# Altium schematic symbol library IC_WSYN.SchLib: 152 symbols (part 2 of 2)
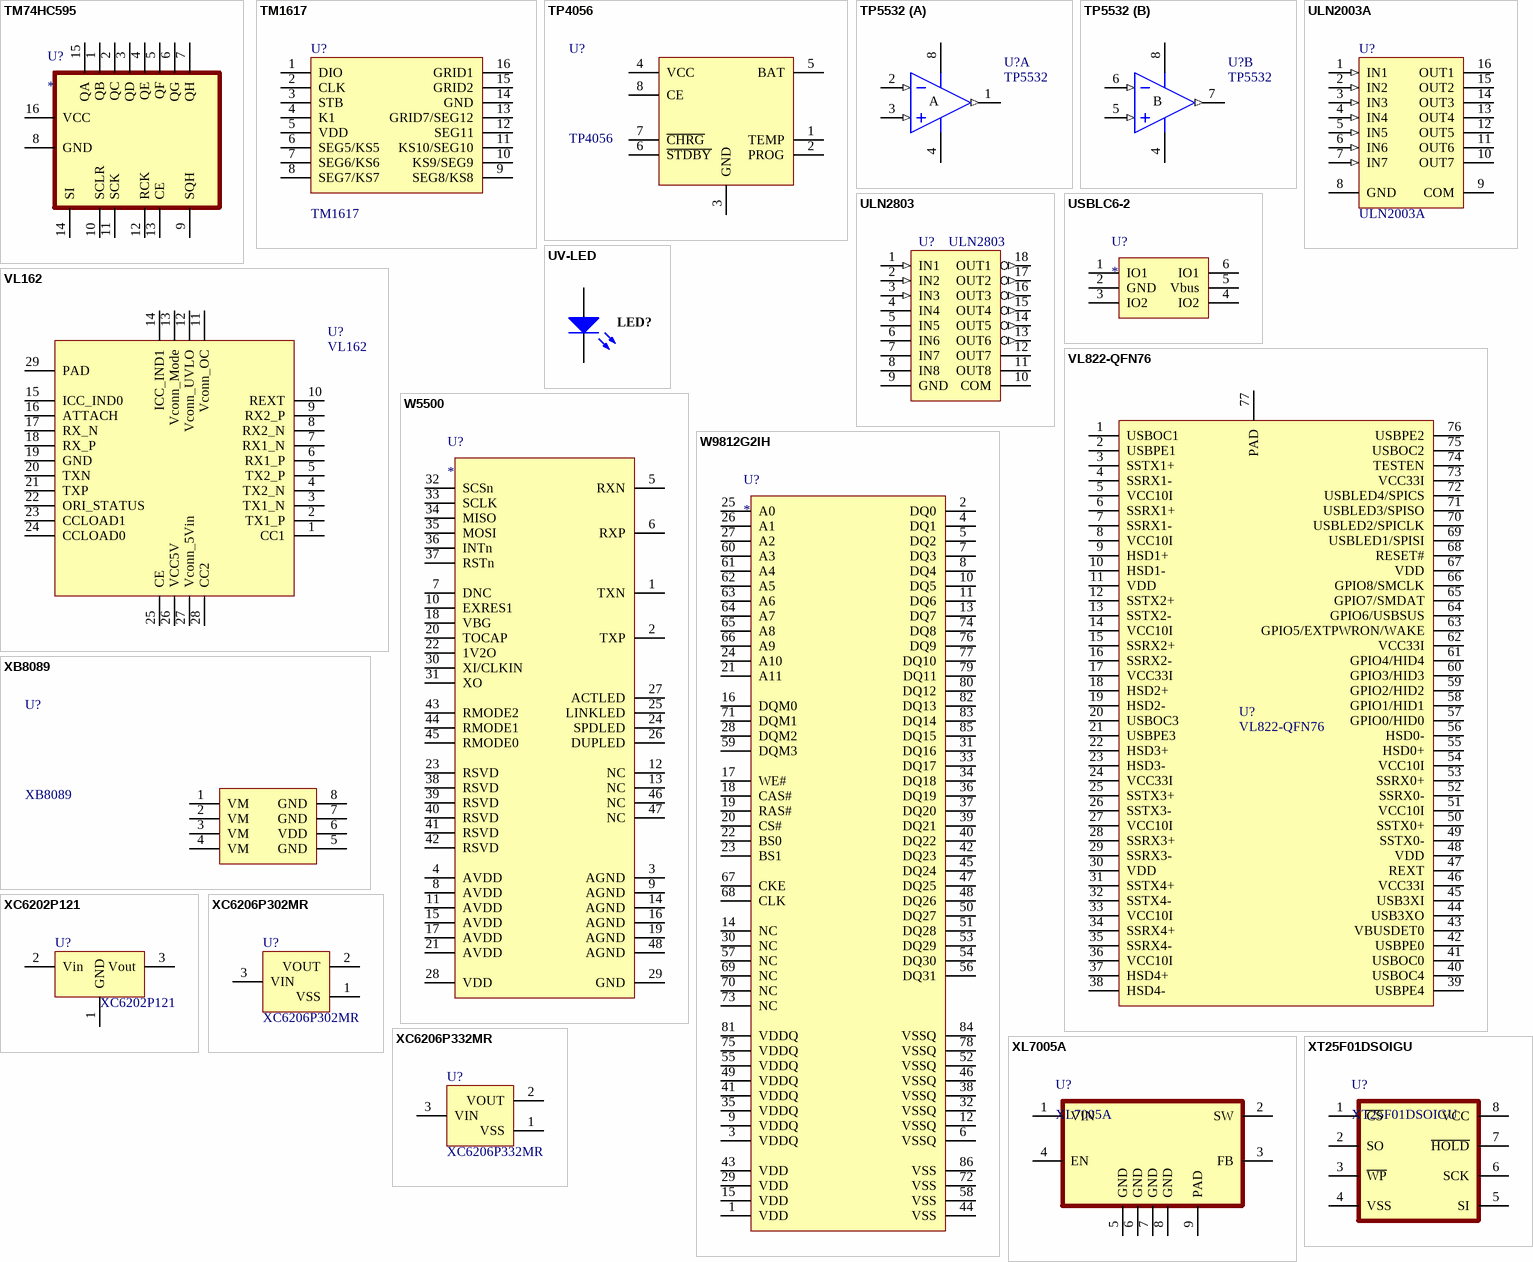
[diagram p7: symbols TM74HC595 to XT25F01DSOIGU]

## W5500
designator U?
Hardwired TCP/IP embedded Ethernet controller; ComponentLink2URL: http://www.wiznet.co.kr/; ComponentLink3URL: http://www.wiznet.io/product-item/w5500/
footprint LQFP48_7X7X05P (Thin QFP, 48-Leads, Body 7x7mm, Pitch 0.5mm, IPC Medium Density)
pins: 1 TXN, 2 TXP, 3 AGND, 4 AVDD, 5 RXN, 6 RXP, 7 DNC, 8 AVDD, 9 AGND, 10 EXRES1, 11 AVDD, 12 NC, 13 NC, 14 AGND, 15 AVDD, 16 AGND, 17 AVDD, 18 VBG, 19 AGND, 20 TOCAP, 21 AVDD, 22 1V2O, 23 RSVD, 24 SPDLED, 25 LINKLED, 26 DUPLED, 27 ACTLED, 28 VDD, 29 GND, 30 XI/CLKIN, 31 XO, 32 SCSn, 33 SCLK, 34 MISO, 35 MOSI, 36 INTn, 37 RSTn, 38 RSVD, 39 RSVD, 40 RSVD, 41 RSVD, 42 RSVD, 43 RMODE2, 44 RMODE1, 45 RMODE0, 46 NC, 47 NC, 48 AGND

## W9812G2IH
designator U?
1M × 4 BANKS × 32BIT SDRAM
footprint TSOP2-86L
pins: 1 VDD, 2 DQ0, 3 VDDQ, 4 DQ1, 5 DQ2, 6 VSSQ, 7 DQ3, 8 DQ4, 9 VDDQ, 10 DQ5, 11 DQ6, 12 VSSQ, 13 DQ7, 14 NC, 15 VDD, 16 DQM0, 17 WE#, 18 CAS#, 19 RAS#, 20 CS#, 21 A11, 22 BS0, 23 BS1, 24 A10, 25 A0, 26 A1, 27 A2, 28 DQM2, 29 VDD, 30 NC, 31 DQ16, 32 VSSQ, 33 DQ17, 34 DQ18, 35 VDDQ, 36 DQ19, 37 DQ20, 38 VSSQ, 39 DQ21, 40 DQ22, 41 VDDQ, 42 DQ23, 43 VDD, 44 VSS, 45 DQ24, 46 VSSQ, 47 DQ25, 48 DQ26, 49 VDDQ, 50 DQ27, 51 DQ28, 52 VSSQ, 53 DQ29, 54 DQ30, 55 VDDQ, 56 DQ31, 57 NC, 58 VSS, 59 DQM3, 60 A3, 61 A4, 62 A5, 63 A6, 64 A7, 65 A8, 66 A9, 67 CKE, 68 CLK, 69 NC, 70 NC, 71 DQM1, 72 VSS, 73 NC, 74 DQ8, 75 VDDQ, 76 DQ9, 77 DQ10, 78 VSSQ, 79 DQ11, 80 DQ12, 81 VDDQ, 82 DQ13, 83 DQ14, 84 VSSQ, 85 DQ15, 86 VSS

## XB8089
designator U?
锂电池保护，5V 3A
footprint SOP8-PP
pins: 1 VM, 2 VM, 3 VM, 4 VM, 5 GND, 6 VDD, 7 GND, 8 GND

## XC6202P121
designator U?
LDO
footprint SOT-89 (SOT-89; Body 4.6 x 4.25 mm, inc. leads (LxW max))
pins: 1 GND, 2 Vin, 3 Vout

## XC6206P302MR
designator U?
footprint SOT23
pins: 1 VSS, 2 VOUT, 3 VIN

## XC6206P332MR
designator U?
footprint SOT23
pins: 1 VSS, 2 VOUT, 3 VIN

## XL7005A
designator U?
电源芯片，降压
footprint SOP-8L(EP)
pins: 1 VIN, 2 SW, 3 FB, 4 EN, 5 GND, 6 GND, 7 GND, 8 GND (power), 9 PAD (power)

## XT25F01DSOIGU
designator U?
存储芯片
footprint SOP-8_150mil
pins: 1 ~{CS}, 2 SO, 3 ~{WP}, 4 VSS, 5 SI, 6 SCK, 7 ~{HOLD}, 8 VCC (power)